# Altium footprint library Package_TO_SOT_THT.PcbLib: 236 footprints (part 11 of 15)
Each footprint in its own frame and in the unit in brackets; x right, y up, seen from the top. Pads: shape width x height; smd on the part's side, far side on the other; paste and mask are expansions set on the pad; w line width, h text height; cw(c..) or ccw(c..) is an arc to the next point about the centre after c.
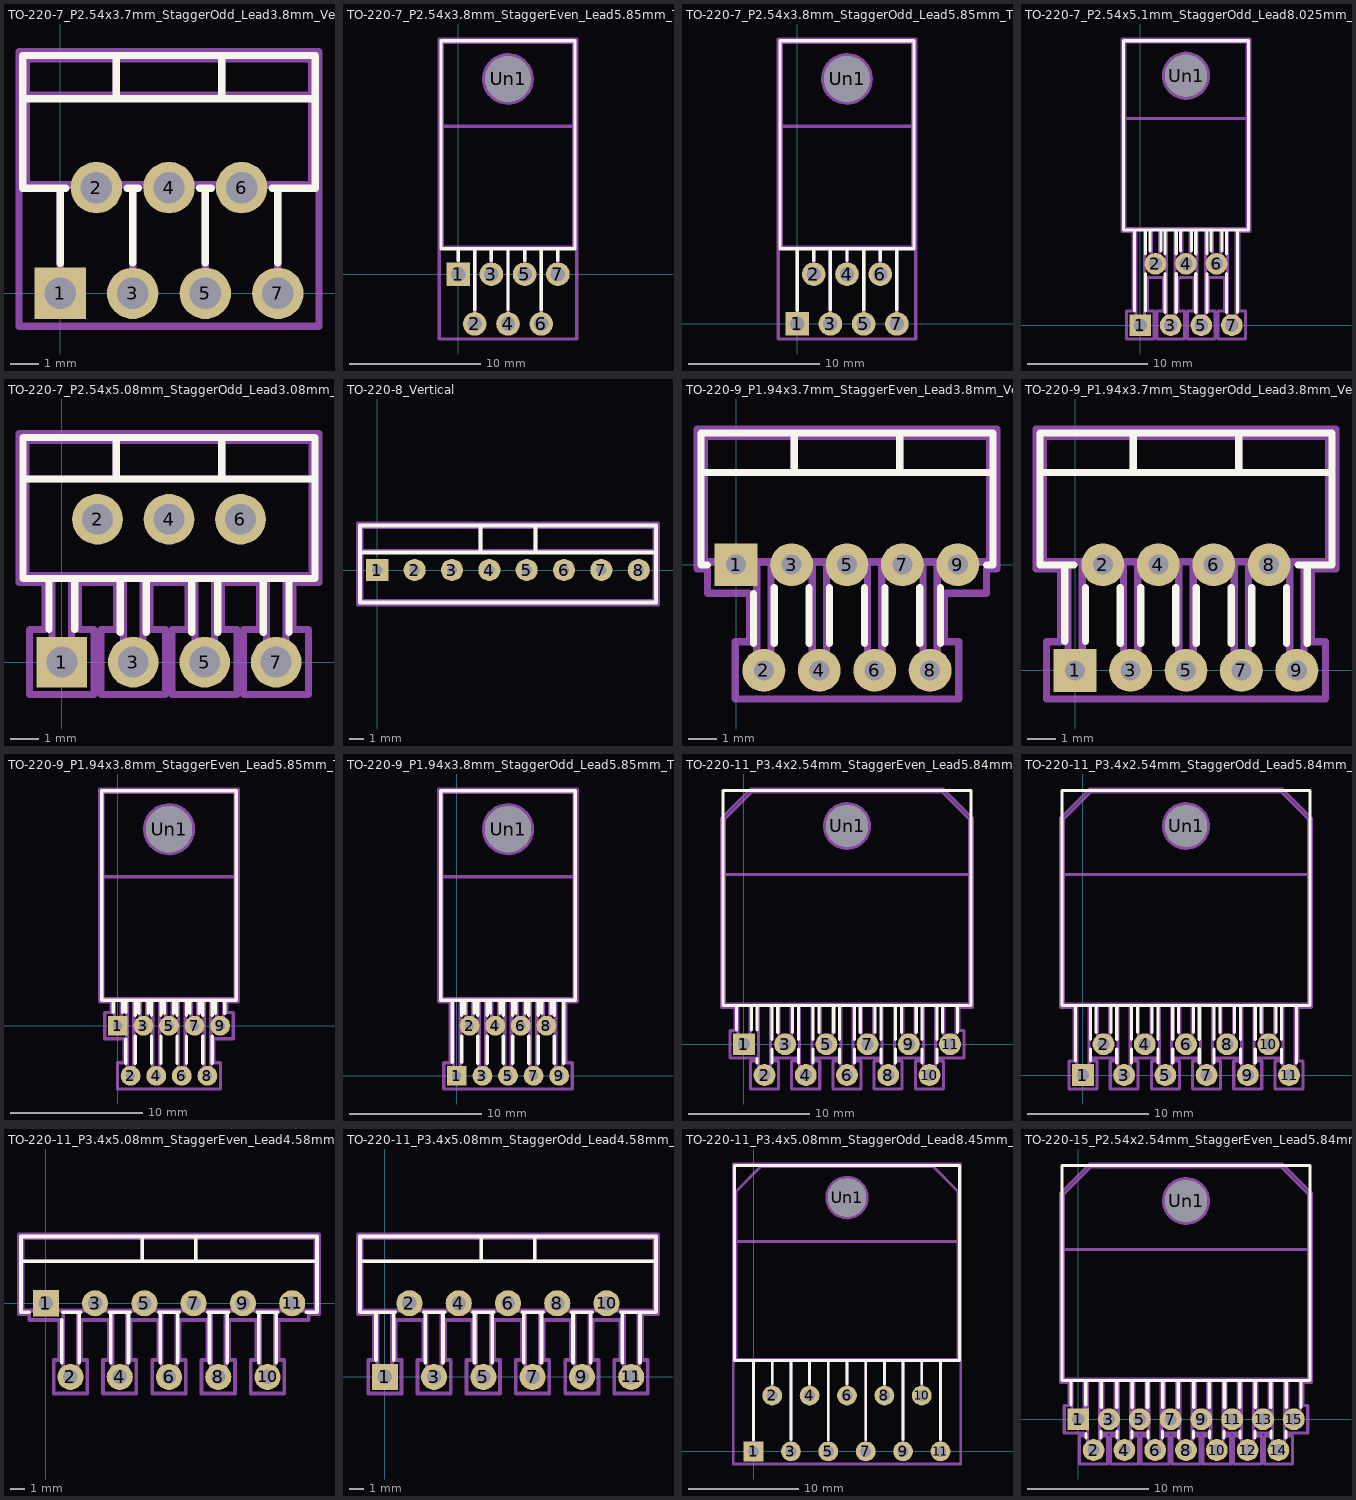
[diagram p10: the footprints below, top view; thin cyan lines are the x and y axes]

## TO-220-7_P2.54x3.7mm_StaggerOdd_Lead3.8mm_Vertical [mm]
pads (7):
  rect 1.8x1.8 hole 1.1: 1(0,0)
  rrect100% 1.8x1.8 hole 1.1: 2(1.27,3.7) 3(2.54,0) 4(3.81,3.7) 5(5.08,0) 6(6.35,3.7) 7(7.62,0)
F.SilkS:
  lines w0.254: -1.31,6.811 8.93,6.811 ; 0,1.049 0,3.679 ; 0.205,3.679 -1.31,3.679 -1.31,8.32 8.93,8.32 8.93,3.679 7.415,3.679 ; 1.96,6.811 1.96,8.32 ; 2.336,3.679 2.745,3.679 ; 2.54,1.065 2.54,3.679 ; 4.875,3.679 5.285,3.679 ; 5.08,1.065 5.08,3.679 ; 5.66,6.811 5.66,8.32 ; 7.62,1.065 7.62,3.679
F.Fab:
  lines w0.254: -1.19,6.93 8.81,6.93 ; 0,0 0,3.8 ; 1.27,3.7 1.27,3.8 ; 1.96,6.93 1.96,8.2 ; 2.54,0 2.54,3.8 ; 3.81,3.7 3.81,3.8 ; 5.08,0 5.08,3.8 ; 5.66,6.93 5.66,8.2 ; 6.35,3.7 6.35,3.8 ; 7.62,0 7.62,3.8 ; -1.19,3.8 -1.19,8.2 8.81,8.2 8.81,3.8 -1.19,3.8
  text "'.Designator'" at -0.237,8.48 h1
F.CrtYd:
  lines w0.254: -1.44,-1.15 -1.44,8.45 9.06,8.45 9.06,-1.15 -1.44,-1.15

## TO-220-7_P2.54x3.8mm_StaggerEven_Lead5.85mm_TabDown [mm]
pads (8):
  rect 1.8x1.8 hole 1.1: 1(0,0)
  rrect100% 1.8x1.8 hole 1.1: 2(1.27,-3.8) 3(2.54,0) 4(3.81,-3.8) 5(5.08,0) 6(6.35,-3.8) 7(7.62,0)
  rrect100% 3.5x3.5 hole 3.5: Un1(3.81,14.9)
F.SilkS:
  lines w0.254: 0,1.05 0,1.93 ; 1.27,-2.735 1.27,1.93 ; 2.54,1.066 2.54,1.93 ; 3.81,-2.735 3.81,1.93 ; 5.08,1.066 5.08,1.93 ; 6.35,-2.735 6.35,1.93 ; 7.62,1.066 7.62,1.93 ; -1.31,1.93 -1.31,17.82 8.93,17.82 8.93,1.93 -1.31,1.93
F.Fab:
  circle w0.254: c3.81,14.9 r1.85
  lines w0.254: 0,0 0,2.05 ; 1.27,-3.8 1.27,2.05 ; 2.54,0 2.54,2.05 ; 3.81,-3.8 3.81,2.05 ; 5.08,0 5.08,2.05 ; 6.35,-3.8 6.35,2.05 ; 7.62,0 7.62,2.05 ; -1.19,11.3 -1.19,17.7 8.81,17.7 8.81,11.3 ; -1.19,11.3 8.81,11.3 ; -1.19,11.3 -1.19,2.05 8.81,2.05 8.81,11.3 ; -1.19,11.3 8.81,11.3
  text "'.Designator'" at -0.237,17.98 h1
F.CrtYd:
  lines w0.254: -1.44,-4.95 -1.44,17.95 9.06,17.95 9.06,-4.95 -1.44,-4.95

## TO-220-7_P2.54x3.8mm_StaggerOdd_Lead5.85mm_TabDown [mm]
pads (8):
  rect 1.8x1.8 hole 1.1: 1(0,0)
  rrect100% 1.8x1.8 hole 1.1: 2(1.27,3.8) 3(2.54,0) 4(3.81,3.8) 5(5.08,0) 6(6.35,3.8) 7(7.62,0)
  rrect100% 3.5x3.5 hole 3.5: Un1(3.81,18.7)
F.SilkS:
  lines w0.254: 0,1.05 0,5.73 ; 1.27,4.866 1.27,5.73 ; 2.54,1.065 2.54,5.73 ; 3.81,4.866 3.81,5.73 ; 5.08,1.065 5.08,5.73 ; 6.35,4.866 6.35,5.73 ; 7.62,1.065 7.62,5.73 ; -1.31,5.73 -1.31,21.62 8.93,21.62 8.93,5.73 -1.31,5.73
F.Fab:
  circle w0.254: c3.81,18.7 r1.85
  lines w0.254: 0,0 0,5.85 ; 1.27,3.8 1.27,5.85 ; 2.54,0 2.54,5.85 ; 3.81,3.8 3.81,5.85 ; 5.08,0 5.08,5.85 ; 6.35,3.8 6.35,5.85 ; 7.62,0 7.62,5.85 ; -1.19,15.1 -1.19,21.5 8.81,21.5 8.81,15.1 ; -1.19,15.1 8.81,15.1 ; -1.19,15.1 -1.19,5.85 8.81,5.85 8.81,15.1 ; -1.19,15.1 8.81,15.1
  text "'.Designator'" at -0.237,21.78 h1
F.CrtYd:
  lines w0.254: -1.44,-1.15 -1.44,21.75 9.06,21.75 9.06,-1.15 -1.44,-1.15

## TO-220-7_P2.54x5.1mm_StaggerOdd_Lead8.025mm_TabDown [mm]
pads (8):
  rect 1.8x1.8 hole 1.1: 1(0,0)
  round 1.8 hole 1.1: 2(1.27,5.1) 3(2.54,0) 4(3.81,5.1) 5(5.08,0) 6(6.35,5.1) 7(7.62,0)
  round 3.5 hole 3.5: Un1(3.81,20.725)
F.SilkS:
  lines w0.254: -0.46,1.16 -0.46,7.915 ; 0.46,1.16 0.46,4.27 ; 0.46,5.93 0.46,7.915 ; 0.81,6.165 0.81,7.915 ; 1.73,6.165 1.73,7.915 ; 2.08,1.065 2.08,4.27 ; 2.08,5.93 2.08,7.915 ; 3,1.065 3,4.27 ; 3,5.93 3,7.915 ; 3.35,6.165 3.35,7.915 ; 4.27,6.165 4.27,7.915 ; 4.62,1.065 4.62,4.27 ; 4.62,5.93 4.62,7.915 ; 5.54,1.065 5.54,4.27 ; 5.54,5.93 5.54,7.915 ; 5.89,6.165 5.89,7.915 ; 6.81,6.165 6.81,7.915 ; 7.16,1.065 7.16,4.27 ; 7.16,5.93 7.16,7.915 ; 8.08,1.065 8.08,7.915 ; -1.38,7.915 -1.38,23.635 9,23.635 9,7.915 -1.38,7.915
F.Fab:
  circle w0.254: c3.81,20.725 r1.875
  lines w0.254: -1.27,17.175 -1.27,23.525 8.89,23.525 8.89,17.175 ; -1.27,17.175 8.89,17.175 ; -1.27,17.175 -1.27,8.025 8.89,8.025 8.89,17.175 ; -1.27,17.175 8.89,17.175 ; -0.35,0 -0.35,8.025 0.35,8.025 0.35,0 -0.35,0 ; 0.92,5.1 0.92,8.025 1.62,8.025 1.62,5.1 0.92,5.1 ; 2.19,0 2.19,8.025 2.89,8.025 2.89,0 2.19,0 ; 3.46,5.1 3.46,8.025 4.16,8.025 4.16,5.1 3.46,5.1 ; 4.73,0 4.73,8.025 5.43,8.025 5.43,0 4.73,0 ; 6,5.1 6,8.025 6.7,8.025 6.7,5.1 6,5.1 ; 7.27,0 7.27,8.025 7.97,8.025 7.97,0 7.27,0
  text "'.Designator'" at -0.237,10.48 h1
F.CrtYd:
  lines w0.254: -1.52,7.77 -1.52,23.78 9.14,23.78 9.14,7.77 8.22,7.77 8.22,1.16 8.77,1.16 8.77,-1.15 6.46,-1.15 6.46,1.16 7.02,1.16 7.02,3.95 5.68,3.95 5.68,1.16 6.23,1.16 6.23,-1.15 3.92,-1.15 3.92,1.16 4.48,1.16 4.48,3.95 3.14,3.95 3.14,1.16 3.69,1.16 3.69,-1.15 1.39,-1.15 1.39,1.16 1.94,1.16 1.94,3.95 0.6,3.95 0.6,1.16 1.15,1.16 1.15,-1.15 -1.15,-1.15 -1.15,1.16 -0.6,1.16 -0.6,7.77 -1.52,7.77

## TO-220-7_P2.54x5.08mm_StaggerOdd_Lead3.08mm_Vertical [mm]
pads (7):
  rect 1.8x1.8 hole 1.1: 1(0,0)
  round 1.8 hole 1.1: 2(1.27,5.08) 3(2.54,0) 4(3.81,5.08) 5(5.08,0) 6(6.35,5.08) 7(7.62,0)
F.SilkS:
  lines w0.254: -1.38,6.51 9,6.51 ; -0.46,1.16 -0.46,2.97 ; 0.46,1.16 0.46,2.97 ; 1.935,6.51 1.935,7.99 ; 2.08,1.065 2.08,2.97 ; 3,1.065 3,2.97 ; 4.62,1.065 4.62,2.97 ; 5.54,1.065 5.54,2.97 ; 5.685,6.51 5.685,7.99 ; 7.16,1.065 7.16,2.97 ; 8.08,1.065 8.08,2.97 ; -1.38,2.97 -1.38,7.99 9,7.99 9,2.97 -1.38,2.97
F.Fab:
  lines w0.254: -1.27,6.51 8.89,6.51 ; 1.935,6.51 1.935,7.88 ; 5.685,6.51 5.685,7.88 ; -1.27,3.08 -1.27,7.88 8.89,7.88 8.89,3.08 -1.27,3.08 ; -0.35,0 -0.35,3.08 0.35,3.08 0.35,0 -0.35,0 ; 2.19,0 2.19,3.08 2.89,3.08 2.89,0 2.19,0 ; 4.73,0 4.73,3.08 5.43,3.08 5.43,0 4.73,0 ; 7.27,0 7.27,3.08 7.97,3.08 7.97,0 7.27,0
  text "'.Designator'" at -0.237,4.64 h1
F.CrtYd:
  lines w0.254: -1.52,2.83 -1.52,8.13 9.14,8.13 9.14,2.83 8.22,2.83 8.22,1.16 8.77,1.16 8.77,-1.15 6.46,-1.15 6.46,1.16 7.02,1.16 7.02,2.83 5.68,2.83 5.68,1.16 6.23,1.16 6.23,-1.15 3.92,-1.15 3.92,1.16 4.48,1.16 4.48,2.83 3.14,2.83 3.14,1.16 3.69,1.16 3.69,-1.15 1.39,-1.15 1.39,1.16 1.94,1.16 1.94,2.83 0.6,2.83 0.6,1.16 1.15,1.16 1.15,-1.15 -1.15,-1.15 -1.15,1.16 -0.6,1.16 -0.6,2.83 -1.52,2.83

## TO-220-8_Vertical [mm]
pads (8):
  rect 1.5x1.5 hole 0.7: 1(0,0)
  rrect100% 1.5x1.5 hole 0.7: 2(2.54,0) 3(5.08,0) 4(7.62,0) 5(10.16,0) 6(12.7,0) 7(15.24,0) 8(17.78,0)
F.SilkS:
  lines w0.254: -1.18,-2.211 -1.18,3.03 18.96,3.03 18.96,-2.21 -1.18,-2.21 ; -1.18,1.19 18.96,1.19 ; 7.015,1.19 7.015,3.03 ; 10.765,1.19 10.765,3.03
F.Fab:
  lines w0.254: -1.06,1.31 18.84,1.31 ; 7.015,1.31 7.015,2.91 ; 10.765,1.31 10.765,2.91 ; -1.06,-2.09 -1.06,2.91 18.84,2.91 18.84,-2.09 -1.06,-2.09
  text "'.Designator'" at 4.843,-0.84 h1
F.CrtYd:
  lines w0.254: -1.31,-2.34 -1.31,3.16 19.09,3.16 19.09,-2.34 -1.31,-2.34

## TO-220-9_P1.94x3.7mm_StaggerEven_Lead3.8mm_Vertical [mm]
pads (9):
  rect 1.5x1.5 hole 0.7: 1(0,0)
  round 1.5 hole 0.7: 2(0.97,-3.7) 3(1.94,0) 4(2.91,-3.7) 5(3.88,0) 6(4.85,-3.7) 7(5.82,0) 8(6.79,-3.7) 9(7.76,0)
F.SilkS:
  lines w0.254: -1.23,3.23 8.99,3.23 ; -1.01,-0.01 -1.23,-0.01 -1.23,4.61 8.99,4.61 8.99,-0.01 8.77,-0.01 ; 0.61,-2.756 0.61,-1.01 ; 1.33,-2.756 1.33,-0.805 ; 2.03,3.23 2.03,4.61 ; 2.55,-2.756 2.55,-0.805 ; 3.27,-2.756 3.27,-0.805 ; 4.49,-2.756 4.49,-0.805 ; 5.21,-2.756 5.21,-0.805 ; 5.73,3.23 5.73,4.61 ; 6.43,-2.756 6.43,-0.805 ; 7.15,-2.756 7.15,-0.805
F.Fab:
  lines w0.254: -1.12,3.23 8.88,3.23 ; 2.03,3.23 2.03,4.5 ; 5.73,3.23 5.73,4.5 ; -1.12,0.1 -1.12,4.5 8.88,4.5 8.88,0.1 -1.12,0.1 ; -0.25,0 -0.25,0.1 0.25,0.1 0.25,0 -0.25,0 ; 0.72,-3.7 0.72,0.1 1.22,0.1 1.22,-3.7 0.72,-3.7 ; 1.69,0 1.69,0.1 2.19,0.1 2.19,0 1.69,0 ; 2.66,-3.7 2.66,0.1 3.16,0.1 3.16,-3.7 2.66,-3.7 ; 3.63,0 3.63,0.1 4.13,0.1 4.13,0 3.63,0 ; 4.6,-3.7 4.6,0.1 5.1,0.1 5.1,-3.7 4.6,-3.7 ; 5.57,0 5.57,0.1 6.07,0.1 6.07,0 5.57,0 ; 6.54,-3.7 6.54,0.1 7.04,0.1 7.04,-3.7 6.54,-3.7 ; 7.51,0 7.51,0.1 8.01,0.1 8.01,0 7.51,0
  text "'.Designator'" at -0.167,1.46 h1
F.CrtYd:
  lines w0.254: -1.37,-0.15 -1.37,4.75 9.13,4.75 9.13,-0.15 8.76,-0.15 8.76,-1 7.29,-1 7.29,-2.7 7.79,-2.7 7.79,-4.7 -0.03,-4.7 -0.03,-2.7 0.47,-2.7 0.47,-1 -1,-1 -1,-0.15 -1.37,-0.15

## TO-220-9_P1.94x3.7mm_StaggerOdd_Lead3.8mm_Vertical [mm]
pads (9):
  rect 1.5x1.5 hole 0.7: 1(0,0)
  round 1.5 hole 0.7: 2(0.97,3.7) 3(1.94,0) 4(2.91,3.7) 5(3.88,0) 6(4.85,3.7) 7(5.82,0) 8(6.79,3.7) 9(7.76,0)
F.SilkS:
  lines w0.254: -1.23,6.93 8.99,6.93 ; -0.36,1.01 -0.36,3.69 ; -0.04,3.69 -1.23,3.69 -1.23,8.31 8.99,8.31 8.99,3.69 7.8,3.69 ; 0.36,1.01 0.36,2.895 ; 1.58,0.944 1.58,2.895 ; 2.03,6.93 2.03,8.31 ; 2.3,0.944 2.3,2.895 ; 3.52,0.944 3.52,2.895 ; 4.24,0.944 4.24,2.895 ; 5.46,0.944 5.46,2.895 ; 5.73,6.93 5.73,8.31 ; 6.18,0.944 6.18,2.895 ; 7.4,0.944 7.4,2.895 ; 8.12,0.944 8.12,3.69
F.Fab:
  lines w0.254: -1.12,6.93 8.88,6.93 ; 2.03,6.93 2.03,8.2 ; 5.73,6.93 5.73,8.2 ; -1.12,3.8 -1.12,8.2 8.88,8.2 8.88,3.8 -1.12,3.8 ; -0.25,0 -0.25,3.8 0.25,3.8 0.25,0 -0.25,0 ; 0.72,3.7 0.72,3.8 1.22,3.8 1.22,3.7 0.72,3.7 ; 1.69,0 1.69,3.8 2.19,3.8 2.19,0 1.69,0 ; 2.66,3.7 2.66,3.8 3.16,3.8 3.16,3.7 2.66,3.7 ; 3.63,0 3.63,3.8 4.13,3.8 4.13,0 3.63,0 ; 4.6,3.7 4.6,3.8 5.1,3.8 5.1,3.7 4.6,3.7 ; 5.57,0 5.57,3.8 6.07,3.8 6.07,0 5.57,0 ; 6.54,3.7 6.54,3.8 7.04,3.8 7.04,3.7 6.54,3.7 ; 7.51,0 7.51,3.8 8.01,3.8 8.01,0 7.51,0
  text "'.Designator'" at -0.167,5.16 h1
F.CrtYd:
  lines w0.254: -1.37,3.55 -1.37,8.45 9.13,8.45 9.13,3.55 8.26,3.55 8.26,1 8.76,1 8.76,-1 -1,-1 -1,1 -0.5,1 -0.5,3.55 -1.37,3.55

## TO-220-9_P1.94x3.8mm_StaggerEven_Lead5.85mm_TabDown [mm]
pads (10):
  rect 1.5x1.5 hole 0.7: 1(0,0)
  round 1.5 hole 0.7: 2(0.97,-3.8) 3(1.94,0) 4(2.91,-3.8) 5(3.88,0) 6(4.85,-3.8) 7(5.82,0) 8(6.79,-3.8) 9(7.76,0)
  round 3.5 hole 3.5: Un1(3.88,14.9)
F.SilkS:
  lines w0.254: -0.36,1.01 -0.36,1.94 ; 0.36,1.01 0.36,1.94 ; 0.61,-2.856 0.61,-1.01 ; 0.61,1.01 0.61,1.94 ; 1.33,-2.856 1.33,-0.805 ; 1.33,0.805 1.33,1.94 ; 1.58,0.944 1.58,1.94 ; 2.3,0.944 2.3,1.94 ; 2.55,-2.856 2.55,-0.805 ; 2.55,0.805 2.55,1.94 ; 3.27,-2.856 3.27,-0.805 ; 3.27,0.805 3.27,1.94 ; 3.52,0.944 3.52,1.94 ; 4.24,0.944 4.24,1.94 ; 4.49,-2.856 4.49,-0.805 ; 4.49,0.805 4.49,1.94 ; 5.21,-2.856 5.21,-0.805 ; 5.21,0.805 5.21,1.94 ; 5.46,0.944 5.46,1.94 ; 6.18,0.944 6.18,1.94 ; 6.43,-2.856 6.43,-0.805 ; 6.43,0.805 6.43,1.94 ; 7.15,-2.856 7.15,-0.805 ; 7.15,0.805 7.15,1.94 ; 7.4,0.944 7.4,1.94 ; 8.12,0.944 8.12,1.94 ; -1.23,1.94 -1.23,17.81 8.99,17.81 8.99,1.94 -1.23,1.94
F.Fab:
  circle w0.254: c3.88,14.9 r1.85
  lines w0.254: -1.12,11.3 -1.12,17.7 8.88,17.7 8.88,11.3 ; -1.12,11.3 8.88,11.3 ; -1.12,11.3 -1.12,2.05 8.88,2.05 8.88,11.3 ; -1.12,11.3 8.88,11.3 ; -0.25,0 -0.25,2.05 0.25,2.05 0.25,0 -0.25,0 ; 0.72,-3.8 0.72,2.05 1.22,2.05 1.22,-3.8 0.72,-3.8 ; 1.69,0 1.69,2.05 2.19,2.05 2.19,0 1.69,0 ; 2.66,-3.8 2.66,2.05 3.16,2.05 3.16,-3.8 2.66,-3.8 ; 3.63,0 3.63,2.05 4.13,2.05 4.13,0 3.63,0 ; 4.6,-3.8 4.6,2.05 5.1,2.05 5.1,-3.8 4.6,-3.8 ; 5.57,0 5.57,2.05 6.07,2.05 6.07,0 5.57,0 ; 6.54,-3.8 6.54,2.05 7.04,2.05 7.04,-3.8 6.54,-3.8 ; 7.51,0 7.51,2.05 8.01,2.05 8.01,0 7.51,0
  text "'.Designator'" at -0.167,5.73 h1
F.CrtYd:
  lines w0.254: -1.37,1.8 -1.37,17.95 9.13,17.95 9.13,1.8 8.26,1.8 8.26,1 8.76,1 8.76,-1 7.29,-1 7.29,-2.8 7.79,-2.8 7.79,-4.8 -0.03,-4.8 -0.03,-2.8 0.47,-2.8 0.47,-1 -1,-1 -1,1 -0.5,1 -0.5,1.8 -1.37,1.8

## TO-220-9_P1.94x3.8mm_StaggerOdd_Lead5.85mm_TabDown [mm]
pads (10):
  rect 1.5x1.5 hole 0.7: 1(0,0)
  round 1.5 hole 0.7: 2(0.97,3.8) 3(1.94,0) 4(2.91,3.8) 5(3.88,0) 6(4.85,3.8) 7(5.82,0) 8(6.79,3.8) 9(7.76,0)
  round 3.5 hole 3.5: Un1(3.88,18.7)
F.SilkS:
  lines w0.254: -0.36,1.01 -0.36,5.74 ; 0.36,1.01 0.36,2.995 ; 0.36,4.605 0.36,5.74 ; 0.61,4.744 0.61,5.74 ; 1.33,4.744 1.33,5.74 ; 1.58,0.944 1.58,2.995 ; 1.58,4.605 1.58,5.74 ; 2.3,0.944 2.3,2.995 ; 2.3,4.605 2.3,5.74 ; 2.55,4.744 2.55,5.74 ; 3.27,4.744 3.27,5.74 ; 3.52,0.944 3.52,2.995 ; 3.52,4.605 3.52,5.74 ; 4.24,0.944 4.24,2.995 ; 4.24,4.605 4.24,5.74 ; 4.49,4.744 4.49,5.74 ; 5.21,4.744 5.21,5.74 ; 5.46,0.944 5.46,2.995 ; 5.46,4.605 5.46,5.74 ; 6.18,0.944 6.18,2.995 ; 6.18,4.605 6.18,5.74 ; 6.43,4.744 6.43,5.74 ; 7.15,4.744 7.15,5.74 ; 7.4,0.944 7.4,2.995 ; 7.4,4.605 7.4,5.74 ; 8.12,0.944 8.12,5.74 ; -1.23,5.74 -1.23,21.61 8.99,21.61 8.99,5.74 -1.23,5.74
F.Fab:
  circle w0.254: c3.88,18.7 r1.85
  lines w0.254: -1.12,15.1 -1.12,21.5 8.88,21.5 8.88,15.1 ; -1.12,15.1 8.88,15.1 ; -1.12,15.1 -1.12,5.85 8.88,5.85 8.88,15.1 ; -1.12,15.1 8.88,15.1 ; -0.25,0 -0.25,5.85 0.25,5.85 0.25,0 -0.25,0 ; 0.72,3.8 0.72,5.85 1.22,5.85 1.22,3.8 0.72,3.8 ; 1.69,0 1.69,5.85 2.19,5.85 2.19,0 1.69,0 ; 2.66,3.8 2.66,5.85 3.16,5.85 3.16,3.8 2.66,3.8 ; 3.63,0 3.63,5.85 4.13,5.85 4.13,0 3.63,0 ; 4.6,3.8 4.6,5.85 5.1,5.85 5.1,3.8 4.6,3.8 ; 5.57,0 5.57,5.85 6.07,5.85 6.07,0 5.57,0 ; 6.54,3.8 6.54,5.85 7.04,5.85 7.04,3.8 6.54,3.8 ; 7.51,0 7.51,5.85 8.01,5.85 8.01,0 7.51,0
  text "'.Designator'" at -0.167,9.53 h1
F.CrtYd:
  lines w0.254: -1.37,5.6 -1.37,21.75 9.13,21.75 9.13,5.6 8.26,5.6 8.26,1 8.76,1 8.76,-1 -1,-1 -1,1 -0.5,1 -0.5,5.6 -1.37,5.6

## TO-220-11_P3.4x2.54mm_StaggerEven_Lead5.84mm_TabDown [mm]
pads (12):
  rect 1.8x1.8 hole 1: 1(0,0)
  round 1.8 hole 1: 2(1.7,-2.54) 3(3.4,0) 4(5.1,-2.54) 5(6.8,0) 6(8.5,-2.54) 7(10.2,0) 8(11.9,-2.54) 9(13.6,0) 10(15.3,-2.54) 11(17,0)
  round 3.5 hole 3.5: Un1(8.5,18)
F.SilkS:
  lines w0.254: -0.61,1.16 -0.61,3.19 ; 0.61,1.16 0.61,3.19 ; 1.09,-1.553 1.09,-1.16 ; 1.09,1.16 1.09,3.19 ; 2.31,-1.553 2.31,-0.397 ; 2.31,0.397 2.31,3.19 ; 2.79,0.987 2.79,3.19 ; 4.01,0.987 4.01,3.19 ; 4.49,-1.553 4.49,-0.397 ; 4.49,0.397 4.49,3.19 ; 5.71,-1.553 5.71,-0.397 ; 5.71,0.397 5.71,3.19 ; 6.19,0.987 6.19,3.19 ; 7.41,0.987 7.41,3.19 ; 7.89,-1.553 7.89,-0.397 ; 7.89,0.397 7.89,3.19 ; 9.11,-1.553 9.11,-0.397 ; 9.11,0.397 9.11,3.19 ; 9.59,0.987 9.59,3.19 ; 10.81,0.987 10.81,3.19 ; 11.29,-1.553 11.29,-0.397 ; 11.29,0.397 11.29,3.19 ; 12.51,-1.553 12.51,-0.397 ; 12.51,0.397 12.51,3.19 ; 12.99,0.987 12.99,3.19 ; 14.21,0.987 14.21,3.19 ; 14.69,-1.553 14.69,-0.397 ; 14.69,0.397 14.69,3.19 ; 15.91,-1.553 15.91,-0.397 ; 15.91,0.397 15.91,3.19 ; 16.39,0.987 16.39,3.19 ; 17.61,0.987 17.61,3.19 ; -1.71,3.19 -1.71,20.91 18.71,20.91 18.71,3.19 -1.71,3.19
F.Fab:
  circle w0.254: c8.5,18 r1.85
  lines w0.254: -1.6,14 -1.6,18.55 0.65,20.8 16.35,20.8 18.6,18.55 18.6,14 ; -1.6,14 18.6,14 ; -1.6,14 -1.6,3.3 18.6,3.3 18.6,14 ; -1.6,14 18.6,14 ; -0.5,0 -0.5,3.3 0.5,3.3 0.5,0 -0.5,0 ; 1.2,-2.54 1.2,3.3 2.2,3.3 2.2,-2.54 1.2,-2.54 ; 2.9,0 2.9,3.3 3.9,3.3 3.9,0 2.9,0 ; 4.6,-2.54 4.6,3.3 5.6,3.3 5.6,-2.54 4.6,-2.54 ; 6.3,0 6.3,3.3 7.3,3.3 7.3,0 6.3,0 ; 8,-2.54 8,3.3 9,3.3 9,-2.54 8,-2.54 ; 9.7,0 9.7,3.3 10.7,3.3 10.7,0 9.7,0 ; 11.4,-2.54 11.4,3.3 12.4,3.3 12.4,-2.54 11.4,-2.54 ; 13.1,0 13.1,3.3 14.1,3.3 14.1,0 13.1,0 ; 14.8,-2.54 14.8,3.3 15.8,3.3 15.8,-2.54 14.8,-2.54 ; 16.5,0 16.5,3.3 17.5,3.3 17.5,0 16.5,0
  text "'.Designator'" at 4.453,7.84 h1
F.CrtYd:
  lines w0.254: -1.85,3.05 -1.85,18.66 0.54,21.05 16.46,21.05 18.85,18.66 18.85,3.05 17.75,3.05 17.75,1.15 18.15,1.15 18.15,-1.15 16.05,-1.15 16.05,-1.39 16.45,-1.39 16.45,-3.69 14.14,-3.69 14.14,-1.39 14.54,-1.39 14.54,-1.15 12.65,-1.15 12.65,-1.39 13.05,-1.39 13.05,-3.69 10.74,-3.69 10.74,-1.39 11.14,-1.39 11.14,-1.15 9.25,-1.15 9.25,-1.39 9.65,-1.39 9.65,-3.69 7.35,-3.69 7.35,-1.39 7.75,-1.39 7.75,-1.15 5.85,-1.15 5.85,-1.39 6.25,-1.39 6.25,-3.69 3.94,-3.69 3.94,-1.39 4.35,-1.39 4.35,-1.15 2.45,-1.15 2.45,-1.39 2.85,-1.39 2.85,-3.69 0.54,-3.69 0.54,-1.39 0.95,-1.39 0.95,-1.15 -1.15,-1.15 -1.15,1.15 -0.75,1.15 -0.75,3.05 -1.85,3.05

## TO-220-11_P3.4x2.54mm_StaggerOdd_Lead5.84mm_TabDown [mm]
pads (12):
  rect 1.8x1.8 hole 1: 1(0,0)
  round 1.8 hole 1: 2(1.7,2.54) 3(3.4,0) 4(5.1,2.54) 5(6.8,0) 6(8.5,2.54) 7(10.2,0) 8(11.9,2.54) 9(13.6,0) 10(15.3,2.54) 11(17,0)
  round 3.5 hole 3.5: Un1(8.5,20.54)
F.SilkS:
  lines w0.254: -0.61,1.16 -0.61,5.73 ; 0.61,1.16 0.61,2.143 ; 0.61,2.937 0.61,5.73 ; 1.09,3.527 1.09,5.73 ; 2.31,3.527 2.31,5.73 ; 2.79,0.987 2.79,2.143 ; 2.79,2.937 2.79,5.73 ; 4.01,0.987 4.01,2.143 ; 4.01,2.937 4.01,5.73 ; 4.49,3.527 4.49,5.73 ; 5.71,3.527 5.71,5.73 ; 6.19,0.987 6.19,2.143 ; 6.19,2.937 6.19,5.73 ; 7.41,0.987 7.41,2.143 ; 7.41,2.937 7.41,5.73 ; 7.89,3.527 7.89,5.73 ; 9.11,3.527 9.11,5.73 ; 9.59,0.987 9.59,2.143 ; 9.59,2.937 9.59,5.73 ; 10.81,0.987 10.81,2.143 ; 10.81,2.937 10.81,5.73 ; 11.29,3.527 11.29,5.73 ; 12.51,3.527 12.51,5.73 ; 12.99,0.987 12.99,2.143 ; 12.99,2.937 12.99,5.73 ; 14.21,0.987 14.21,2.143 ; 14.21,2.937 14.21,5.73 ; 14.69,3.527 14.69,5.73 ; 15.91,3.527 15.91,5.73 ; 16.39,0.987 16.39,2.143 ; 16.39,2.937 16.39,5.73 ; 17.61,0.987 17.61,5.73 ; -1.71,5.73 18.71,5.73 18.71,23.45 -1.71,23.45 -1.71,5.73
F.Fab:
  circle w0.254: c8.5,20.54 r1.85
  lines w0.254: -1.6,16.54 18.6,16.54 ; -1.6,16.54 -1.6,5.84 18.6,5.84 18.6,16.54 ; -1.6,16.54 18.6,16.54 ; -1.6,16.54 -1.6,21.09 0.65,23.34 16.35,23.34 18.6,21.09 18.6,16.54 ; -0.5,0 0.5,0 0.5,5.84 -0.5,5.84 -0.5,0 ; 1.2,2.54 2.2,2.54 2.2,5.84 1.2,5.84 1.2,2.54 ; 2.9,0 3.9,0 3.9,5.84 2.9,5.84 2.9,0 ; 4.6,2.54 5.6,2.54 5.6,5.84 4.6,5.84 4.6,2.54 ; 6.3,0 7.3,0 7.3,5.84 6.3,5.84 6.3,0 ; 8,2.54 9,2.54 9,5.84 8,5.84 8,2.54 ; 9.7,0 10.7,0 10.7,5.84 9.7,5.84 9.7,0 ; 11.4,2.54 12.4,2.54 12.4,5.84 11.4,5.84 11.4,2.54 ; 13.1,0 14.1,0 14.1,5.84 13.1,5.84 13.1,0 ; 14.8,2.54 15.8,2.54 15.8,5.84 14.8,5.84 14.8,2.54 ; 16.5,0 17.5,0 17.5,5.84 16.5,5.84 16.5,0
  text "'.Designator'" at 4.453,10.38 h1
F.CrtYd:
  lines w0.254: -1.85,5.59 -0.75,5.59 -0.75,1.15 -1.15,1.15 -1.15,-1.15 1.15,-1.15 1.15,1.15 0.75,1.15 0.75,1.39 2.65,1.39 2.65,1.15 2.25,1.15 2.25,-1.15 4.55,-1.15 4.55,1.15 4.15,1.15 4.15,1.39 6.05,1.39 6.05,1.15 5.64,1.15 5.64,-1.15 7.95,-1.15 7.95,1.15 7.55,1.15 7.55,1.39 9.45,1.39 9.45,1.15 9.04,1.15 9.04,-1.15 11.35,-1.15 11.35,1.15 10.95,1.15 10.95,1.39 12.84,1.39 12.84,1.15 12.44,1.15 12.44,-1.15 14.75,-1.15 14.75,1.15 14.35,1.15 14.35,1.39 16.24,1.39 16.24,1.15 15.84,1.15 15.84,-1.15 18.15,-1.15 18.15,1.15 17.75,1.15 17.75,5.59 18.85,5.59 18.85,21.2 16.46,23.59 0.54,23.59 -1.85,21.2 -1.85,5.59

## TO-220-11_P3.4x5.08mm_StaggerEven_Lead4.58mm_Vertical [mm]
pads (11):
  rect 1.8x1.8 hole 1: 1(0,0)
  round 1.8 hole 1: 2(1.7,-5.08) 3(3.4,0) 4(5.1,-5.08) 5(6.8,0) 6(8.5,-5.08) 7(10.2,0) 8(11.9,-5.08) 9(13.6,0) 10(15.3,-5.08) 11(17,0)
F.SilkS:
  lines w0.254: -1.71,2.9 18.71,2.9 ; -1.16,-0.61 -1.71,-0.61 -1.71,4.61 18.71,4.61 18.71,-0.61 17.987,-0.61 ; 1.09,-4.093 1.09,-1.16 ; 1.16,-0.61 2.413,-0.61 ; 2.31,-4.093 2.31,-0.61 ; 4.387,-0.61 5.813,-0.61 ; 4.49,-4.093 4.49,-0.61 ; 5.71,-4.093 5.71,-0.61 ; 6.65,2.9 6.65,4.61 ; 7.787,-0.61 9.213,-0.61 ; 7.89,-4.093 7.89,-0.61 ; 9.11,-4.093 9.11,-0.61 ; 10.35,2.9 10.35,4.61 ; 11.187,-0.61 12.613,-0.61 ; 11.29,-4.093 11.29,-0.61 ; 12.51,-4.093 12.51,-0.61 ; 14.587,-0.61 16.013,-0.61 ; 14.69,-4.093 14.69,-0.61 ; 15.91,-4.093 15.91,-0.61
F.Fab:
  lines w0.254: -1.6,2.9 18.6,2.9 ; 6.65,2.9 6.65,4.5 ; 10.35,2.9 10.35,4.5 ; -1.6,-0.5 -1.6,4.5 18.6,4.5 18.6,-0.5 -1.6,-0.5 ; 1.2,-5.08 1.2,-0.5 2.2,-0.5 2.2,-5.08 1.2,-5.08 ; 4.6,-5.08 4.6,-0.5 5.6,-0.5 5.6,-5.08 4.6,-5.08 ; 8,-5.08 8,-0.5 9,-0.5 9,-5.08 8,-5.08 ; 11.4,-5.08 11.4,-0.5 12.4,-0.5 12.4,-5.08 11.4,-5.08 ; 14.8,-5.08 14.8,-0.5 15.8,-0.5 15.8,-5.08 14.8,-5.08
  text "'.Designator'" at 4.453,1.16 h1
F.CrtYd:
  lines w0.254: -1.85,-0.75 -1.85,4.75 18.85,4.75 18.85,-0.75 18.15,-0.75 18.15,-1.15 16.05,-1.15 16.05,-3.92 16.45,-3.92 16.45,-6.23 14.14,-6.23 14.14,-3.92 14.54,-3.92 14.54,-1.15 12.65,-1.15 12.65,-3.92 13.05,-3.92 13.05,-6.23 10.74,-6.23 10.74,-3.92 11.14,-3.92 11.14,-1.15 9.25,-1.15 9.25,-3.92 9.65,-3.92 9.65,-6.23 7.35,-6.23 7.35,-3.92 7.75,-3.92 7.75,-1.15 5.85,-1.15 5.85,-3.92 6.25,-3.92 6.25,-6.23 3.94,-6.23 3.94,-3.92 4.35,-3.92 4.35,-1.15 2.45,-1.15 2.45,-3.92 2.85,-3.92 2.85,-6.23 0.54,-6.23 0.54,-3.92 0.95,-3.92 0.95,-1.15 -1.15,-1.15 -1.15,-0.75 -1.85,-0.75
3D body "TO-220-11_P3.4x5.08mm_StaggerEven_Lead4.58mm_Vertical.step": height 21.2, standoff -2.8, extent -1.49,-5.33 18.51,4.55

## TO-220-11_P3.4x5.08mm_StaggerOdd_Lead4.58mm_Vertical [mm]
pads (11):
  rect 1.8x1.8 hole 1: 1(0,0)
  round 1.8 hole 1: 2(1.7,5.08) 3(3.4,0) 4(5.1,5.08) 5(6.8,0) 6(8.5,5.08) 7(10.2,0) 8(11.9,5.08) 9(13.6,0) 10(15.3,5.08) 11(17,0)
F.SilkS:
  lines w0.254: -1.71,7.98 18.71,7.98 ; -0.61,1.16 -0.61,4.47 ; 0.61,1.16 0.61,4.47 ; 0.713,4.47 -1.71,4.47 -1.71,9.69 18.71,9.69 18.71,4.47 16.287,4.47 ; 2.687,4.47 4.113,4.47 ; 2.79,0.987 2.79,4.47 ; 4.01,0.987 4.01,4.47 ; 6.087,4.47 7.513,4.47 ; 6.19,0.987 6.19,4.47 ; 6.65,7.98 6.65,9.69 ; 7.41,0.987 7.41,4.47 ; 9.487,4.47 10.913,4.47 ; 9.59,0.987 9.59,4.47 ; 10.35,7.98 10.35,9.69 ; 10.81,0.987 10.81,4.47 ; 12.887,4.47 14.313,4.47 ; 12.99,0.987 12.99,4.47 ; 14.21,0.987 14.21,4.47 ; 16.39,0.987 16.39,4.47 ; 17.61,0.987 17.61,4.47
F.Fab:
  lines w0.254: -1.6,7.98 18.6,7.98 ; 6.65,7.98 6.65,9.58 ; 10.35,7.98 10.35,9.58 ; -1.6,4.58 -1.6,9.58 18.6,9.58 18.6,4.58 -1.6,4.58 ; -0.5,0 -0.5,4.58 0.5,4.58 0.5,0 -0.5,0 ; 2.9,0 2.9,4.58 3.9,4.58 3.9,0 2.9,0 ; 6.3,0 6.3,4.58 7.3,4.58 7.3,0 6.3,0 ; 9.7,0 9.7,4.58 10.7,4.58 10.7,0 9.7,0 ; 13.1,0 13.1,4.58 14.1,4.58 14.1,0 13.1,0 ; 16.5,0 16.5,4.58 17.5,4.58 17.5,0 16.5,0
  text "'.Designator'" at 4.453,6.24 h1
F.CrtYd:
  lines w0.254: -1.85,4.33 -1.85,9.83 18.85,9.83 18.85,4.33 17.75,4.33 17.75,1.16 18.15,1.16 18.15,-1.15 15.84,-1.15 15.84,1.16 16.24,1.16 16.24,3.93 14.35,3.93 14.35,1.16 14.75,1.16 14.75,-1.15 12.44,-1.15 12.44,1.16 12.84,1.16 12.84,3.93 10.95,3.93 10.95,1.16 11.35,1.16 11.35,-1.15 9.04,-1.15 9.04,1.16 9.45,1.16 9.45,3.93 7.55,3.93 7.55,1.16 7.95,1.16 7.95,-1.15 5.64,-1.15 5.64,1.16 6.05,1.16 6.05,3.93 4.15,3.93 4.15,1.16 4.55,1.16 4.55,-1.15 2.25,-1.15 2.25,1.16 2.65,1.16 2.65,3.93 0.75,3.93 0.75,1.16 1.15,1.16 1.15,-1.15 -1.15,-1.15 -1.15,1.16 -0.75,1.16 -0.75,4.33 -1.85,4.33
3D body "TO-220-11_P3.4x5.08mm_StaggerOdd_Lead4.58mm_Vertical.step": height 21.1, standoff -2.9, extent -1.49,-0.28 18.51,9.6

## TO-220-11_P3.4x5.08mm_StaggerOdd_Lead8.45mm_TabDown [mm]
pads (12):
  rect 1.8x1.8 hole 1: 1(0,0)
  rrect100% 1.8x1.8 hole 1: 2(1.7,5.08) 3(3.4,0) 4(5.1,5.08) 5(6.8,0) 6(8.5,5.08) 7(10.2,0) 8(11.9,5.08) 9(13.6,0) 10(15.3,5.08) 11(17,0)
  rrect100% 3.5x3.5 hole 3.5: Un1(8.5,23.08)
F.SilkS:
  lines w0.254: 0,1.05 0,8.255 ; 1.7,6.146 1.7,8.26 ; 3.4,1.065 3.4,8.255 ; 5.1,6.146 5.1,8.26 ; 6.8,1.065 6.8,8.255 ; 8.5,6.146 8.5,8.26 ; 10.2,1.065 10.2,8.255 ; 11.9,6.146 11.9,8.26 ; 13.6,1.065 13.6,8.255 ; 15.3,6.146 15.3,8.26 ; 17,1.065 17,8.255 ; -1.72,8.26 18.72,8.26 18.72,26 -1.72,26 -1.72,8.26
F.Fab:
  circle w0.254: c8.5,23.08 r1.85
  lines w0.254: 0,0 0,8.382 ; 1.7,5.08 1.7,8.38 ; 3.4,0 3.4,8.382 ; 5.1,5.08 5.1,8.38 ; 6.8,0 6.8,8.382 ; 8.5,5.08 8.5,8.38 ; 10.2,0 10.2,8.382 ; 11.9,5.08 11.9,8.38 ; 13.6,0 13.6,8.382 ; 15.3,5.08 15.3,8.38 ; 17,0 17,8.382 ; -1.6,19.08 18.6,19.08 ; -1.6,19.08 -1.6,8.38 18.6,8.38 18.6,19.08 ; -1.6,19.08 18.6,19.08 ; -1.6,19.08 -1.6,23.63 0.651,25.88 16.351,25.88 18.6,23.63 18.6,19.08
  text "'.Designator'" at 4.453,26.16 h1
F.CrtYd:
  lines w0.254: -1.85,-1.15 18.85,-1.15 18.85,26.13 -1.85,26.13 -1.85,-1.15

## TO-220-15_P2.54x2.54mm_StaggerEven_Lead5.84mm_TabDown [mm]
pads (16):
  rect 1.8x1.8 hole 1: 1(0,0)
  round 1.8 hole 1: 2(1.27,-2.54) 3(2.54,0) 4(3.81,-2.54) 5(5.08,0) 6(6.35,-2.54) 7(7.62,0) 8(8.89,-2.54) 9(10.16,0) 10(11.43,-2.54) 11(12.7,0) 12(13.97,-2.54) 13(15.24,0) 14(16.51,-2.54) 15(17.78,0)
  round 3.5 hole 3.5: Un1(8.89,18)
F.SilkS:
  lines w0.254: -0.61,1.16 -0.61,3.19 ; 0.61,1.16 0.61,3.19 ; 0.66,-1.553 0.66,-1.16 ; 0.66,1.16 0.66,3.19 ; 1.88,-1.553 1.88,-0.954 ; 1.88,0.954 1.88,3.19 ; 1.93,0.987 1.93,3.19 ; 3.15,0.987 3.15,3.19 ; 3.2,-1.553 3.2,-0.954 ; 3.2,0.954 3.2,3.19 ; 4.42,-1.553 4.42,-0.954 ; 4.42,0.954 4.42,3.19 ; 4.47,0.987 4.47,3.19 ; 5.69,0.987 5.69,3.19 ; 5.74,-1.553 5.74,-0.954 ; 5.74,0.954 5.74,3.19 ; 6.96,-1.553 6.96,-0.954 ; 6.96,0.954 6.96,3.19 ; 7.01,0.987 7.01,3.19 ; 8.23,0.987 8.23,3.19 ; 8.28,-1.553 8.28,-0.954 ; 8.28,0.954 8.28,3.19 ; 9.5,-1.553 9.5,-0.954 ; 9.5,0.954 9.5,3.19 ; 9.55,0.987 9.55,3.19 ; 10.77,0.987 10.77,3.19 ; 10.82,-1.553 10.82,-0.954 ; 10.82,0.954 10.82,3.19 ; 12.04,-1.553 12.04,-0.954 ; 12.04,0.954 12.04,3.19 ; 12.09,0.987 12.09,3.19 ; 13.31,0.987 13.31,3.19 ; 13.36,-1.553 13.36,-0.954 ; 13.36,0.954 13.36,3.19 ; 14.58,-1.553 14.58,-0.954 ; 14.58,0.954 14.58,3.19 ; 14.63,0.987 14.63,3.19 ; 15.85,0.987 15.85,3.19 ; 15.9,-1.553 15.9,-0.954 ; 15.9,0.954 15.9,3.19 ; 17.12,-1.553 17.12,-0.954 ; 17.12,0.954 17.12,3.19 ; 17.17,0.987 17.17,3.19 ; 18.39,0.987 18.39,3.19 ; -1.32,3.19 -1.32,20.91 19.1,20.91 19.1,3.19 -1.32,3.19
F.Fab:
  circle w0.254: c8.89,18 r1.85
  lines w0.254: -1.21,14 -1.21,18.55 1.04,20.8 16.74,20.8 18.99,18.55 18.99,14 ; -1.21,14 18.99,14 ; -1.21,14 -1.21,3.3 18.99,3.3 18.99,14 ; -1.21,14 18.99,14 ; -0.5,0 -0.5,3.3 0.5,3.3 0.5,0 -0.5,0 ; 0.77,-2.54 0.77,3.3 1.77,3.3 1.77,-2.54 0.77,-2.54 ; 2.04,0 2.04,3.3 3.04,3.3 3.04,0 2.04,0 ; 3.31,-2.54 3.31,3.3 4.31,3.3 4.31,-2.54 3.31,-2.54 ; 4.58,0 4.58,3.3 5.58,3.3 5.58,0 4.58,0 ; 5.85,-2.54 5.85,3.3 6.85,3.3 6.85,-2.54 5.85,-2.54 ; 7.12,0 7.12,3.3 8.12,3.3 8.12,0 7.12,0 ; 8.39,-2.54 8.39,3.3 9.39,3.3 9.39,-2.54 8.39,-2.54 ; 9.66,0 9.66,3.3 10.66,3.3 10.66,0 9.66,0 ; 10.93,-2.54 10.93,3.3 11.93,3.3 11.93,-2.54 10.93,-2.54 ; 12.2,0 12.2,3.3 13.2,3.3 13.2,0 12.2,0 ; 13.47,-2.54 13.47,3.3 14.47,3.3 14.47,-2.54 13.47,-2.54 ; 14.74,0 14.74,3.3 15.74,3.3 15.74,0 14.74,0 ; 16.01,-2.54 16.01,3.3 17.01,3.3 17.01,-2.54 16.01,-2.54 ; 17.28,0 17.28,3.3 18.28,3.3 18.28,0 17.28,0
  text "'.Designator'" at 4.843,7.84 h1
F.CrtYd:
  lines w0.254: -1.46,3.05 -1.46,18.66 0.93,21.05 16.85,21.05 19.24,18.66 19.24,3.05 18.53,3.05 18.53,1.15 18.93,1.15 18.93,-1.15 17.26,-1.15 17.26,-1.39 17.66,-1.39 17.66,-3.69 15.35,-3.69 15.35,-1.39 15.75,-1.39 15.75,-1.15 14.72,-1.15 14.72,-1.39 15.12,-1.39 15.12,-3.69 12.81,-3.69 12.81,-1.39 13.21,-1.39 13.21,-1.15 12.18,-1.15 12.18,-1.39 12.58,-1.39 12.58,-3.69 10.27,-3.69 10.27,-1.39 10.67,-1.39 10.67,-1.15 9.64,-1.15 9.64,-1.39 10.04,-1.39 10.04,-3.69 7.73,-3.69 7.73,-1.39 8.13,-1.39 8.13,-1.15 7.1,-1.15 7.1,-1.39 7.5,-1.39 7.5,-3.69 5.19,-3.69 5.19,-1.39 5.6,-1.39 5.6,-1.15 4.56,-1.15 4.56,-1.39 4.96,-1.39 4.96,-3.69 2.66,-3.69 2.66,-1.39 3.06,-1.39 3.06,-1.15 2.02,-1.15 2.02,-1.39 2.42,-1.39 2.42,-3.69 0.12,-3.69 0.12,-1.39 0.52,-1.39 0.52,-1.15 -1.15,-1.15 -1.15,1.15 -0.75,1.15 -0.75,3.05 -1.46,3.05